# Altium footprint library Molex Footprints.PcbLib: 498 footprints (part 13 of 32)
Each footprint in its own frame and in the unit in brackets; x right, y up, seen from the top. Pads: shape width x height; smd on the part's side, far side on the other; paste and mask are expansions set on the pad; w line width, h text height; cw(c..) or ccw(c..) is an arc to the next point about the centre after c.
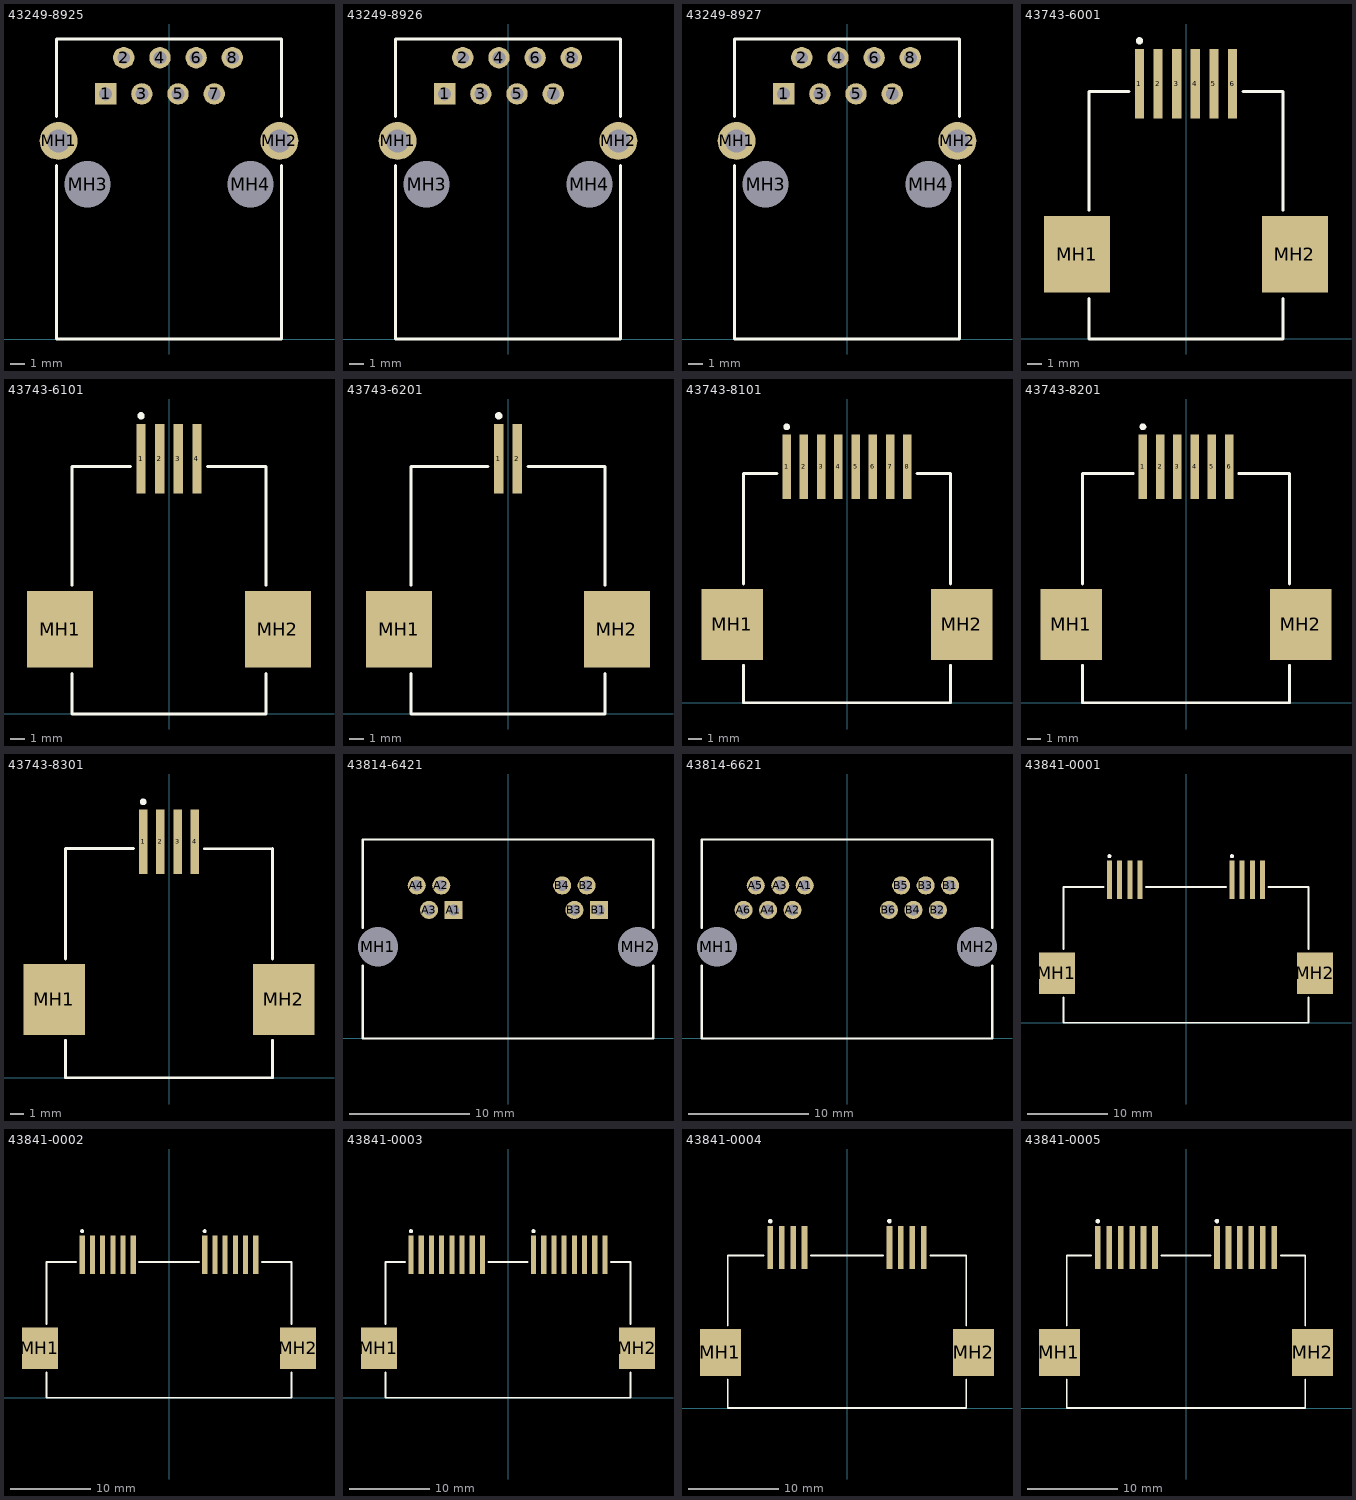
[diagram p12: the footprints below, top view; thin cyan lines are the x and y axes]

## 43249-8925 [mm] "Connector; PCB Jack, Thru-Hole; 1-Port, 8 Positions, 8 Loaded; Shielded without Lightpipes; Right Angle"
height 13
pads (12):
  rect 1.5x1.5 hole 0.9: 1(-4.445,17.2)
  round 1.5 hole 0.9: 2(-3.175,19.74) 3(-1.905,17.2) 4(-0.635,19.74) 5(0.635,17.2) 6(1.905,19.74) 7(3.175,17.2) 8(4.445,19.74)
  round 2.65 hole 1.6: MH1(-7.747,13.898) MH2(7.747,13.898)
  round 2.95 hole 3.25 unplated: MH3(-5.715,10.85) MH4(5.715,10.85)
Top Overlay:
  lines w0.2: -7.885,12.174 -7.885,0 7.885,0 7.885,12.174 ; -7.885,15.622 -7.885,21.05 7.885,21.05 7.885,15.622

## 43249-8926 [mm] "Connector; PCB Jack, Thru-Hole; 1-Port, 8 Positions, 8 Loaded; Shielded without Lightpipes; Right Angle"
height 13
pads (12):
  rect 1.5x1.5 hole 0.9: 1(-4.445,17.2)
  round 1.5 hole 0.9: 2(-3.175,19.74) 3(-1.905,17.2) 4(-0.635,19.74) 5(0.635,17.2) 6(1.905,19.74) 7(3.175,17.2) 8(4.445,19.74)
  round 2.65 hole 1.6: MH1(-7.747,13.898) MH2(7.747,13.898)
  round 2.95 hole 3.25 unplated: MH3(-5.715,10.85) MH4(5.715,10.85)
Top Overlay:
  lines w0.2: -7.885,12.174 -7.885,0 7.885,0 7.885,12.174 ; -7.885,15.622 -7.885,21.05 7.885,21.05 7.885,15.622

## 43249-8927 [mm] "Connector; PCB Jack, Thru-Hole; 1-Port, 8 Positions, 8 Loaded; Shielded without Lightpipes; Right Angle"
height 13
pads (12):
  rect 1.5x1.5 hole 0.9: 1(-4.445,17.2)
  round 1.5 hole 0.9: 2(-3.175,19.74) 3(-1.905,17.2) 4(-0.635,19.74) 5(0.635,17.2) 6(1.905,19.74) 7(3.175,17.2) 8(4.445,19.74)
  round 2.65 hole 1.6: MH1(-7.747,13.898) MH2(7.747,13.898)
  round 2.95 hole 3.25 unplated: MH3(-5.715,10.85) MH4(5.715,10.85)
Top Overlay:
  lines w0.2: -7.885,12.174 -7.885,0 7.885,0 7.885,12.174 ; -7.885,15.622 -7.885,21.05 7.885,21.05 7.885,15.622

## 43743-6001 [mil] "Connector; PCB Jack, SM; 1-Port, 6 Positions, 6 Loaded; Unshielded without Lightpipes; Right Angle"
height 459.06
pads (8):
  rect 25x187 smd: 1(-125,685.5) 2(-75,685.5) 3(-25,685.5) 4(25,685.5) 5(75,685.5) 6(125,685.5)
  rect 178x205 smd: MH1(-292.5,227.5) MH2(292.5,227.5)
Top Overlay:
  circle w9.84: c-125,800.65 r4.92
  lines w7.87: -260,109.25 -260,0 260,0 260,109.25 ; -260,345.75 -260,665 -153.25,665 ; 153.25,665 260,665 260,345.75

## 43743-6101 [mil] "Connector; PCB Jack, SM; 1-Port, 6 Positions, 4 Loaded; Unshielded without Lightpipes; Right Angle"
height 459.06
pads (6):
  rect 25x187 smd: 1(-75,685.5) 2(-25,685.5) 3(25,685.5) 4(75,685.5)
  rect 178x205 smd: MH1(-292.5,227.5) MH2(292.5,227.5)
Top Overlay:
  circle w9.84: c-75,800.65 r4.92
  lines w7.87: -260,109.25 -260,0 260,0 260,109.25 ; -260,345.75 -260,665 -103.25,665 ; 103.25,665 260,665 260,345.75

## 43743-6201 [mil] "Connector; PCB Jack, SM; 1-Port, 6 Positions, 2 Loaded; Unshielded without Lightpipes; Right Angle"
height 459.06
pads (4):
  rect 25x187 smd: 1(-25,685.5) 2(25,685.5)
  rect 178x205 smd: MH1(-292.5,227.5) MH2(292.5,227.5)
Top Overlay:
  circle w9.84: c-25,800.65 r4.92
  lines w7.87: -260,109.25 -260,0 260,0 260,109.25 ; -260,345.75 -260,665 -53.25,665 ; 53.25,665 260,665 260,345.75

## 43743-8101 [mil] "Connector; PCB Jack, SM; 1-Port, 8 Positions, 8 Loaded; Unshielded without Lightpipes; Right Angle"
height 459.06
pads (10):
  rect 25x187 smd: 1(-175,685.5) 2(-125,685.5) 3(-75,685.5) 4(-25,685.5) 5(25,685.5) 6(75,685.5) 7(125,685.5) 8(175,685.5)
  rect 178x205 smd: MH1(-332.5,227.5) MH2(332.5,227.5)
Top Overlay:
  circle w9.84: c-175,800.65 r4.92
  lines w7.87: -300,109.25 -300,0 300,0 300,109.25 ; -300,345 -300,665 -203.25,665 ; 203.25,665 300,665 300,345

## 43743-8201 [mil] "Connector; PCB Jack, SM; 1-Port, 8 Positions, 6 Loaded; Unshielded without Lightpipes; Right Angle"
height 459.06
pads (8):
  rect 25x187 smd: 1(-125,685.5) 2(-75,685.5) 3(-25,685.5) 4(25,685.5) 5(75,685.5) 6(125,685.5)
  rect 178x205 smd: MH1(-332.5,227.5) MH2(332.5,227.5)
Top Overlay:
  circle w9.84: c-125,800.65 r4.92
  lines w7.87: -300,109.25 -300,0 300,0 300,109.25 ; -300,345 -300,665 -153.25,665 ; 153.25,665 300,665 300,345

## 43743-8301 [mil] "Connector; PCB Jack, SM; 1-Port, 8 Positions, 4 Loaded; Unshielded without Lightpipes; Right Angle"
height 459.06
pads (6):
  rect 25x187 smd: 1(-75,685.5) 2(-25,685.5) 3(25,685.5) 4(75,685.5)
  rect 178x205 smd: MH1(-332.5,227.5) MH2(332.5,227.5)
Top Overlay:
  circle w9.84: c-75,800.65 r4.92
  lines w7.87: -300,109.25 -300,0 300,0 300,109.25 ; -300,345 -300,665 -103.25,665 ; 103.25,664.25 300,665 300,345

## 43814-6421 [mm] "Connector; PCB Jack, Thru-Hole; 2-Port, 6 Positions, 4 Loaded; Unshielded without Lightpipes; Right Angle"
height 12.7
pads (10):
  rect 1.5x1.5 hole 0.9: A1(-4.521,10.668) B1(7.544,10.668)
  round 1.5 hole 0.9: A2(-5.537,12.7) A3(-6.553,10.668) A4(-7.569,12.7) B2(6.528,12.7) B3(5.512,10.668) B4(4.496,12.7)
  round 3 hole 3.3 unplated: MH1(-10.795,7.62) MH2(10.795,7.62)
Top Overlay:
  lines w0.2: -12.065,6.043 -12.065,0 12.065,0 12.065,6.043 ; -12.065,9.197 -12.065,16.51 12.065,16.51 12.065,9.197

## 43814-6621 [mm] "Connector; PCB Jack, Thru-Hole; 2-Port, 6 Positions, 6 Loaded; Unshielded without Lightpipes; Right Angle"
height 12.7
pads (14):
  round 1.5 hole 0.9: A1(-3.505,12.7) A2(-4.521,10.668) A3(-5.537,12.7) A4(-6.553,10.668) A5(-7.569,12.7) A6(-8.585,10.668) B1(8.56,12.7) B2(7.544,10.668) B3(6.528,12.7) B4(5.512,10.668) B5(4.496,12.7) B6(3.48,10.668)
  round 3 hole 3.3 unplated: MH1(-10.795,7.62) MH2(10.795,7.62)
Top Overlay:
  lines w0.2: -12.065,6.043 -12.065,0 12.065,0 12.065,6.043 ; -12.065,9.197 -12.065,16.51 12.065,16.51 12.065,9.197

## 43841-0001 [mil] "Connector; PCB Jack, SM; 2-Port, 8 Positions, 4 Loaded; Unshielded without Lightpipes; Right Angle"
height 464.57
pads (10):
  rect 25x187 smd: A1(-375,700.5) A2(-325,700.5) A3(-275,700.5) A4(-225,700.5) B1(225,700.5) B2(275,700.5) B3(325,700.5) B4(375,700.5)
  rect 178x205 smd: MH1(-632,242.5) MH2(632,242.5)
Top Overlay:
  circle w9.84: c-375,815.65 r4.92
  circle w9.84: c225,815.65 r4.92
  lines w7.87: -600,124.25 -600,0 600,0 600,124.25 ; -600,360.75 -600,665 -403.25,665 ; -196.75,665 196.75,665 ; 403.25,665 600,665 600,360.75

## 43841-0002 [mil] "Connector; PCB Jack, SM; 2-Port, 8 Positions, 6 Loaded; Unshielded without Lightpipes; Right Angle"
height 464.57
pads (14):
  rect 25x187 smd: A1(-425,700.5) A2(-375,700.5) A3(-325,700.5) A4(-275,700.5) A5(-225,700.5) A6(-175,700.5) B1(175,700.5) B2(225,700.5) B3(275,700.5) B4(325,700.5) B5(375,700.5) B6(425,700.5)
  rect 178x205 smd: MH1(-632,242.5) MH2(632,242.5)
Top Overlay:
  circle w9.84: c175,815.65 r4.92
  circle w9.84: c-425,815.65 r4.92
  lines w7.87: -600,124.25 -600,0 600,0 600,124.25 ; -600,360.75 -600,665 -453.25,665 ; -146.75,665 146.75,665 ; 453.25,665 600,665 600,360.75

## 43841-0003 [mil] "Connector; PCB Jack, SM; 2-Port, 8 Positions, 8 Loaded; Unshielded without Lightpipes; Right Angle"
height 464.57
pads (18):
  rect 25x187 smd: A1(-475,700.5) A2(-425,700.5) A3(-375,700.5) A4(-325,700.5) A5(-275,700.5) A6(-225,700.5) A7(-175,700.5) A8(-125,700.5) B1(125,700.5) B2(175,700.5) B3(225,700.5) B4(275,700.5) B5(325,700.5) B6(375,700.5) B7(425,700.5) B8(475,700.5)
  rect 178x205 smd: MH1(-632,242.5) MH2(632,242.5)
Top Overlay:
  circle w9.84: c125,815.65 r4.92
  circle w9.84: c-475,815.65 r4.92
  lines w7.87: -600,124.25 -600,0 600,0 600,124.25 ; -600,360.75 -600,665 -503.25,665 ; -96.75,665 96.75,665 ; 503.25,665 600,665 600,360.75

## 43841-0004 [mil] "Connector; PCB Jack, SM; 2-Port, 6 Positions, 4 Loaded; Unshielded without Lightpipes; Right Angle"
height 464.57
pads (10):
  rect 25x187 smd: A1(-335,700.5) A2(-285,700.5) A3(-235,700.5) A4(-185,700.5) B1(185,700.5) B2(235,700.5) B3(285,700.5) B4(335,700.5)
  rect 178x205 smd: MH1(-552,242.5) MH2(552,242.5)
Top Overlay:
  circle w9.84: c185,815.65 r4.92
  circle w9.84: c-335,815.65 r4.92
  lines w7.87: -520,124.25 -520,0 520,0 520,124.25 ; -520,360.75 -520,665 -363.25,665 ; -156.75,665 156.75,665 ; 363.25,665 520,665 520,360.75

## 43841-0005 [mil] "Connector; PCB Jack, SM; 2-Port, 6 Positions, 6 Loaded; Unshielded without Lightpipes; Right Angle"
height 464.57
pads (14):
  rect 25x187 smd: A1(-385,700.5) A2(-335,700.5) A3(-285,700.5) A4(-235,700.5) A5(-185,700.5) A6(-135,700.5) B1(135,700.5) B2(185,700.5) B3(235,700.5) B4(285,700.5) B5(335,700.5) B6(385,700.5)
  rect 178x205 smd: MH1(-552,242.5) MH2(552,242.5)
Top Overlay:
  circle w9.84: c-385,815.65 r4.92
  circle w9.84: c135,815.65 r4.92
  lines w7.87: -520,124.25 -520,0 520,0 520,124.25 ; -520,360.75 -520,665 -413.25,665 ; -106.75,665 106.75,665 ; 413.25,665 520,665 520,360.75